# EAGLE library part ATTINY25MLF (library ads4)
Atmel ATtiny25, ATtiny45, ATtiny85 microcontrollers in the QFN/MLF package
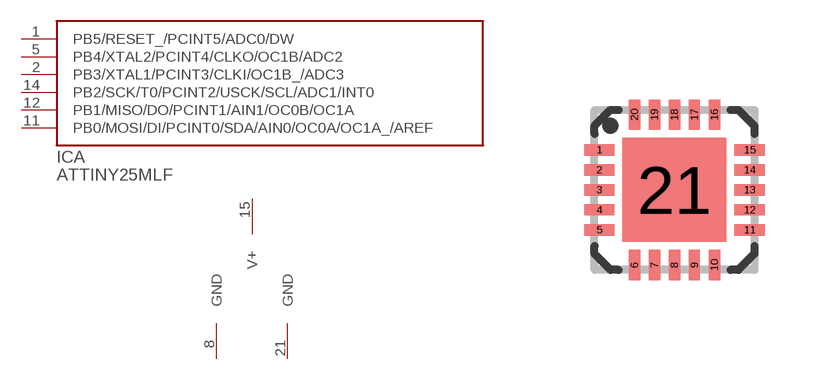
[diagram p97: symbol with the pads of ATMEL20M1; footprint ATMEL20M1]

Designator prefix IC; gates A=ATTINY25 P=POWER2GND

## ATTINY25MLFM  [ATMEL20M1]
1  A:PB5/RESET_/PCINT5/ADC0/DW  in
2  A:PB3/XTAL1/PCINT3/CLKI/OC1B_/ADC3  in
5  A:PB4/XTAL2/PCINT4/CLKO/OC1B/ADC2  in
8  P:GND  pwr
11  A:PB0/MOSI/DI/PCINT0/SDA/AIN0/OC0A/OC1A_/AREF  in
12  A:PB1/MISO/DO/PCINT1/AIN1/OC0B/OC1A  in
14  A:PB2/SCK/T0/PCINT2/USCK/SCL/ADC1/INT0  in
15  P:V+  pwr
21  P:GND  pwr

## Footprint ATMEL20M1 (pad centres in mm)
Atmel 20M1 package -- 20-pad 4x4mm QFN 0.5mm lead pitch 2.6mm exposed pad
smd 0.76 x 0.28: 1 -1.88,1; 2 -1.88,0.5; 3 -1.88,0; 4 -1.88,-0.5; 5 -1.88,-1; 11 1.88,-1; 12 1.88,-0.5; 13 1.88,0; 14 1.88,0.5; 15 1.88,1
smd 0.28 x 0.76: 6 -1,-1.88; 7 -0.5,-1.88; 8 0,-1.88; 9 0.5,-1.88; 10 1,-1.88; 16 1,1.88; 17 0.5,1.88; 18 0,1.88; 19 -0.5,1.88; 20 -1,1.88
smd 2.6 x 2.6: 21 0,0